# Altium schematic symbol library balancing.SchLib: 7 symbols
Pins are listed as number, name and electrical type; pins without a type are passive.

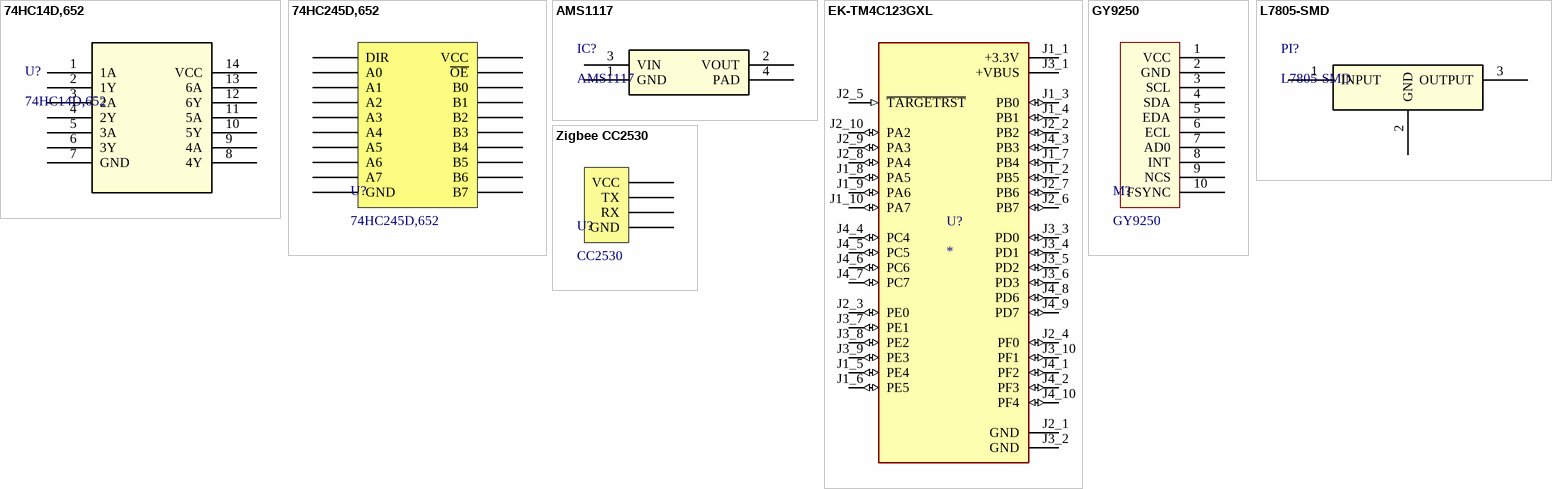
[diagram p0: symbols 74HC14D,652 to Zigbee CC2530]

## 74HC14D,652
designator U?
Vendor: Nexperia; SourceLibrary: Nexperia_2018-05-2018; Manufacturer_Part_Number: 74HC14D,652; Copyright: Copyright (C) 2016 Accelerated Designs. All rights reserved; RefDes: RefDes; Type: DEV
footprint 74HC14D,652
pins: 1 1A, 2 1Y, 3 2A, 4 2Y, 5 3A, 6 3Y, 7 GND, 8 4Y, 9 4A, 10 5Y, 11 5A, 12 6Y, 13 6A, 14 VCC

## 74HC245D,652
designator U?
Vendor: Nexperia; SourceLibrary: Nexperia_2018-05-2018; Manufacturer_Part_Number: 74HC245D,652; Copyright: Copyright (C) 2016 Accelerated Designs. All rights reserved; RefDes: RefDes; Type: DEV
footprint 74HC245D-652
pins: 1 DIR, 2 A0, 3 A1, 4 A2, 5 A3, 6 A4, 7 A5, 8 A6, 9 A7, 10 GND, 11 B7, 12 B6, 13 B5, 14 B4, 15 B3, 16 B2, 17 B1, 18 B0, 19 ~{OE}, 20 VCC

## AMS1117
designator IC?
Manufacturer_Part_Number: AMS1117-5.0; SourceLibrary: Advanced_Monolithic_Systems_2020-02-13; Built_By: EMA_Kyle; Vendor: Advanced Monolithic Systems; Copyright: Copyright (C) 2018 Accelerated Designs. All rights reserved; RefDes: RefDes; Type: DEV
footprint SOT223_AMS111700
pins: 1 GND, 2 VOUT, 3 VIN, 4 PAD

## EK-TM4C123GXL
designator U?
ARMÂ® CortexÂ®-M4F Based MCU TM4C123G LaunchPadâ„¢ Evaluation Kit; MP: EK-TM4C123GXL; MF: Texas Instruments; Price: None; Package: None; Purchase-URL: https://pricing.snapeda.com/search/part/EK-TM4C123GXL/?ref=eda; Availability: Warning; SnapEDA_Link: https://www.snapeda.com/parts/EK-TM4C123GXL/Texas%20Instruments/view-part/132968/?ref=snap; Check_prices: https://www.snapeda.com/parts/EK-TM4C123GXL/Texas%20Instruments/view-part/132968/?ref=eda; Value: *
footprint MODULE_EK-TM4C123GXL
pins: J1_1 +3.3V (power), J1_2 PB5 (io), J1_3 PB0 (io), J1_4 PB1 (io), J1_5 PE4 (io), J1_6 PE5 (io), J1_7 PB4 (io), J1_8 PA5 (io), J1_9 PA6 (io), J1_10 PA7 (io), J2_1 GND (power), J2_2 PB2 (io), J2_3 PE0 (io), J2_4 PF0 (io), J2_5 ~{TARGETRST} (in), J2_6 PB7 (io), J2_7 PB6 (io), J2_8 PA4 (io), J2_9 PA3 (io), J2_10 PA2 (io), J3_1 +VBUS (power), J3_2 GND (power), J3_3 PD0 (io), J3_4 PD1 (io), J3_5 PD2 (io), J3_6 PD3 (io), J3_7 PE1 (io), J3_8 PE2 (io), J3_9 PE3 (io), J3_10 PF1 (io), J4_1 PF2 (io), J4_2 PF3 (io), J4_3 PB3 (io), J4_4 PC4 (io), J4_5 PC5 (io), J4_6 PC6 (io), J4_7 PC7 (io), J4_8 PD6 (io), J4_9 PD7 (io), J4_10 PF4 (io)

## GY9250
designator M?
Local Supplier: HShop; Local Supplier Link: https://hshop.vn/products/cam-bien-gy-9250-9dof-imu-mpu9250; Local Supplier Part Number: *; Manufacturer: *; Manufacturer Part Number: *
footprint GY9250
pins: 1 VCC, 2 GND, 3 SCL, 4 SDA, 5 EDA, 6 ECL, 7 AD0, 8 INT, 9 NCS, 10 FSYNC

## L7805-SMD
designator PI?
Manufacturer_Part_Number: L7805CD2T-TR; Vendor: STMicroelectronics; Built_By: EMA_UL_Team; Copyright: Copyright (C) 2018 Accelerated Designs. All rights reserved; RefDes: RefDes; Type: DEV
footprint D2PAK
pins: 1 INPUT, 2 GND, 3 OUTPUT

## Zigbee CC2530
designator U?, comment CC2530
Zigbee
footprint CC2530
pins: 1 VCC, 2 TX, 3 RX, 4 GND